# Altium footprint library conn.PcbLib: 34 footprints (part 1 of 3)
Each footprint in its own frame and in the unit in brackets; x right, y up, seen from the top. Pads: shape width x height; smd on the part's side, far side on the other; paste and mask are expansions set on the pad; w line width, h text height; cw(c..) or ccw(c..) is an arc to the next point about the centre after c.
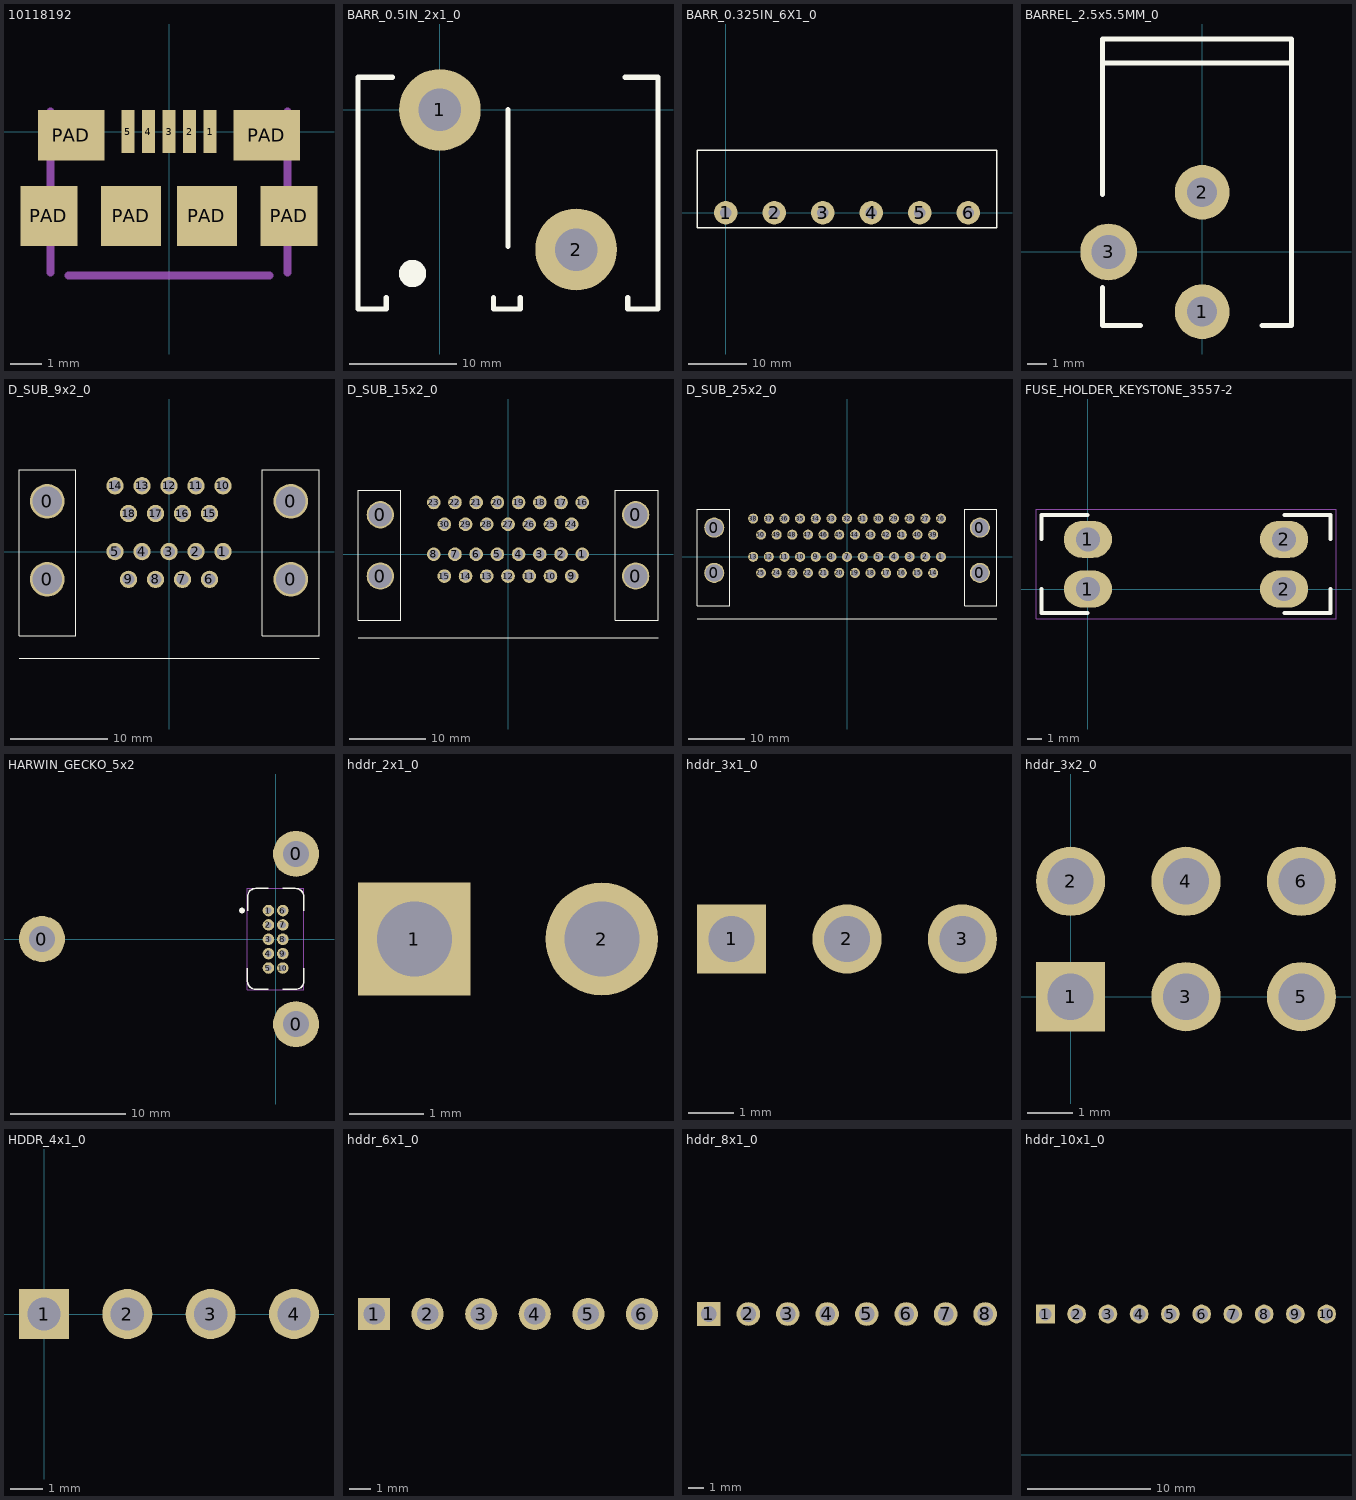
[diagram p0: the footprints below, top view; thin cyan lines are the x and y axes]

## 10118192 [mm] "USB Micro B Type Receptacle"
pads (11):
  rect 0.4x1.35 smd: 1(1.3,0) 2(0.65,0) 3(0,0) 4(-0.65,0) 5(-1.3,0)
  rect 1.8x1.9 smd: PAD(-3.8,-2.675) PAD(3.8,-2.675)
  rect 2.1x1.6 smd: PAD(-3.1,-0.125) PAD(3.1,-0.125)
  rect 1.9x1.9 smd: PAD(-1.2,-2.675) PAD(1.2,-2.675)
Mechanical 15:
  lines w0.254: -3.75,-4.47 -3.75,0.635 ; -3.175,-4.566 3.175,-4.566 ; 3.75,-4.47 3.75,0.635

## BARR_0.5IN_2x1_0 [mm] "Barrier Block, 0.5\" Pitch, 2 Pos, 1 Level, Molex 38969"
pads (2):
  round 7.62 hole 3.96: 1(0,0) 2(12.7,-13.005)
Top Overlay:
  circle w1.27: c-2.54,-15.24 r0.635
  lines w0.508: -5,-17.5 -5,-18.542 -7.62,-18.542 -7.62,0 -7.62,3.048 -4.445,3.048 ; 5,-17.5 5,-18.542 7.5,-18.542 7.5,-17.5 ; 6.35,-12.7 6.35,0 ; 17.272,3.048 20.32,3.048 20.32,0 20.32,-18.542 17.5,-18.542 17.5,-17.5
3D body "389690002_barrier_block.SLDPRT": height 22.6, standoff -4, extent -7.6,-18.547 20.3,3.053

## BARR_0.325IN_6X1_0 [mm] "Barrier Block, 0.325\" Pitch, 6 Pos, 1 Level, On Shore OSTYK42"
pads (6):
  round 4 hole 2: 1(0,0) 2(8.25,0) 3(16.5,0) 4(24.75,0) 5(33,0) 6(41.25,0)
Top Overlay:
  lines w0.254: -4.9,10.6 -4.9,-2.6 46.15,-2.6 46.15,10.6 ; -4.9,10.668 46.15,10.668

## BARREL_2.5x5.5MM_0 [mm] "Barrel jack, 5mm, PJ-102B"
pads (3):
  round 2.75 hole 1.5: 1(0,-3) 2(0,3)
  round 2.85 hole 1.7: 3(-4.7,0)
Top Overlay:
  lines w0.254: -5,-1.8 -5,-3.7 -3.1,-3.7 ; -5,2.9 -5,10.7 4.5,10.7 4.5,-3.7 3,-3.7 ; -5,9.5 4.5,9.5
3D body "CUI_PJ-102B.sldprt": height 11.05, standoff -3.45, extent -4.9,-3.7 4.5,10.7

## D_SUB_9x2_0 [mil] "NorComp Dual 9-pin D-Sub"
pads (22):
  round 140 hole 120: 0(-492,-112) 0(-492,203) 0(492,-112) 0(492,203)
  round 70 hole 47: 1(218,0) 2(109,0) 3(0,0) 4(-109,0) 5(-218,0) 6(163.5,-112) 7(54.5,-112) 8(-54.5,-112) 9(-163.5,-112) 10(218,266) 11(109,266) 12(0,266) 13(-109,266) 14(-218,266) 15(163.5,154) 16(54.5,154) 17(-54.5,154) 18(-163.5,154)
Top Overlay:
  lines w5: -606,-430 606,-430 ; -606,-340 -377,-340 -377,330 -606,330 -606,-340 ; 377,-340 606,-340 606,330 377,330 377,-340
3D body "178-009-513.STEP": height 1251, standoff -125, extent -606,-671 607,330

## D_SUB_15x2_0 [mil] "NorComp Dual 15-pin D-Sub"
pads (34):
  round 140 hole 120: 0(-656,-112) 0(-656,203) 0(656,-112) 0(656,203)
  round 70 hole 47: 1(381.5,0) 2(272.5,0) 3(163.5,0) 4(54.5,0) 5(-54.5,0) 6(-163.5,0) 7(-272.5,0) 8(-381.5,0) 9(327,-112) 10(218,-112) 11(109,-112) 12(0,-112) 13(-109,-112) 14(-218,-112) 15(-327,-112) 16(381.5,266) 17(272.5,266) 18(163.5,266) 19(54.5,266) 20(-54.5,266) 21(-163.5,266) 22(-272.5,266) 23(-381.5,266) 24(327,154) 25(218,154) 26(109,154) 27(0,154) 28(-109,154) 29(-218,154) 30(-327,154)
Top Overlay:
  lines w5: -770.5,-430 770.5,-430 ; -770.5,-340 -770.5,330 -550,330 -550,-340 -770.5,-340 ; 550,-340 770.5,-340 770.5,330 550,330 550,-340
3D body "178-015-513.STEP": height 1252, standoff -124, extent -774,-671 774,330

## D_SUB_25x2_0 [mil] "NorComp Dual 25-pin D-Sub"
pads (54):
  round 140 hole 120: 0(-925,-112) 0(-925,203) 0(925,-112) 0(925,203)
  round 70 hole 47: 1(654,0) 2(545,0) 3(436,0) 4(327,0) 5(218,0) 6(109,0) 7(0,0) 8(-109,0) 9(-218,0) 10(-327,0) 11(-436,0) 12(-545,0) 13(-654,0) 14(599.5,-112) 15(490.5,-112) 16(381.5,-112) 17(272.5,-112) 18(163.5,-112) 19(54.5,-112) 20(-54.5,-112) 21(-163.5,-112) 22(-272.5,-112) 23(-381.5,-112) 24(-490.5,-112) 25(-599.5,-112) 26(654,266) 27(545,266) 28(436,266) 29(327,266) 30(218,266) 31(109,266) 32(0,266) 33(-109,266) 34(-218,266) 35(-327,266) 36(-436,266) 37(-545,266) 38(-654,266) 39(599.5,154) 40(490.5,154) 41(381.5,154) 42(272.5,154) 43(163.5,154) 44(54.5,154) 45(-54.5,154) 46(-163.5,154) 47(-272.5,154) 48(-381.5,154) 49(-490.5,154) 50(-599.5,154)
Top Overlay:
  lines w5: -1043,-430 1043,-430 ; -1045,-340 -818,-340 -818,330 -1045,330 -1045,-340 ; 820,-340 820,330 1044,330 1044,-340 820,-340
3D body "178-025-513.STEP": height 1251, standoff -125, extent -1044,-671 1044,330

## FUSE_HOLDER_KEYSTONE_3557-2 [mil]
pads (4):
  oval 130x100 hole 65: 1(0,0) 1(0,134) 2(530,0) 2(530,134)
Top Overlay:
  lines w10: -125,0 -125,-65 0,-65 ; -125,134 -125,200 0,200 ; 530,-65 655,-65 655,0 ; 530,200 655,200 655,134
Mechanical 15:
  lines w1.97: -140,-80 670,-80 670,215 -140,215 -140,-80
Multi-Layer:
  region: 465,134 465,0 594,0 595,0 595,134
  region: -65,134 -65,0 64,0 65,0 65,134

## HARWIN_GECKO_5x2 [mm] "Harwin Gecko connector, 10-pin, thru hole"
pads (13):
  round 4 hole 2.25: 0(-20.325,0) 0(1.775,-7.4) 0(1.775,7.4)
  round 1 hole 0.55: 1(-0.625,2.475) 2(-0.625,1.225) 3(-0.625,-0.025) 4(-0.625,-1.275) 5(-0.625,-2.525) 6(0.625,2.475) 7(0.625,1.225) 8(0.625,-0.025) 9(0.625,-1.275) 10(0.625,-2.525)
Top Overlay:
  circle w0.254: c-2.925,2.475 r0.125
  lines w0.127: -2.449,-2.525 -2.449,-3.665 ccw(c-1.725,-3.664) -1.725,-4.388 -0.625,-4.388 ; -2.444,2.475 -2.444,3.675 cw(c-1.72,3.675) -1.721,4.399 -0.625,4.394 ; 0.625,-4.393 1.721,-4.393 ccw(c1.72,-3.669) 2.444,-3.669 2.444,-2.525 ; 0.625,4.394 1.721,4.394 cw(c1.721,3.67) 2.445,3.671 2.444,2.475
Mechanical 15:
  lines w0.051: -2.45,-4.4 0,-4.4 2.45,-4.4 2.45,4.4 0,4.4 -2.45,4.4 -2.45,-4.4
3D body "ELLIPSE-Micro.SLDPRT": height 9.8, standoff 0, extent -22.3,-9.4 4.5,9.4
3D body: height 0.25, standoff -26.8, extent -3,0.5 -3,0.5

## hddr_2x1_0 [mil] "0.1\" Header 2x1"
pads (2):
  rect 60x60 hole 40: 1(800,450)
  round 60 hole 40: 2(900,450)

## hddr_3x1_0 [mil] "0.1\" Header 3x1"
pads (3):
  rect 60x60 hole 40: 1(800,450)
  round 60 hole 40: 2(900,450) 3(1000,450)

## hddr_3x2_0 [mil] "0.1\" Header 3x2"
pads (6):
  rect 60x60 hole 40: 1(0,0)
  round 60 hole 40: 2(0,100) 3(100,0) 4(100,100) 5(200,0) 6(200,100)

## HDDR_4x1_0 [mil]
pads (4):
  rect 60x60 hole 40: 1(0,0)
  round 60 hole 40: 2(100,0) 3(200,0) 4(300,0)

## hddr_6x1_0 [mil] "0.1\" Header 6x1"
pads (6):
  rect 60x60 hole 40: 1(800,450)
  round 60 hole 40: 2(900,450) 3(1000,450) 4(1100,450) 5(1200,450) 6(1300,450)

## hddr_8x1_0 [mil] "0.1\" Header 8x1"
pads (8):
  rect 60x60 hole 40: 1(800,450)
  round 60 hole 40: 2(900,450) 3(1000,450) 4(1100,450) 5(1200,450) 6(1300,450) 7(1400,450) 8(1500,450)

## hddr_10x1_0 [mil] "0.1\" Header 10x1"
pads (10):
  rect 60x60 hole 40: 1(800,450)
  round 60 hole 40: 2(900,450) 3(1000,450) 4(1100,450) 5(1200,450) 6(1300,450) 7(1400,450) 8(1500,450) 9(1600,450) 10(1700,450)